# Altium schematic symbol library DAC_MAX542CCSD.Schlib: 1 symbol
Pins are listed as number, name and electrical type; pins without a type are passive.

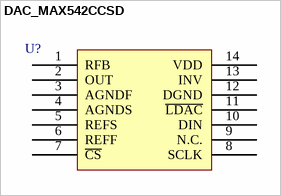
[diagram p0: symbol DAC_MAX542CCSD]

## DAC_MAX542CCSD
designator U?, comment MAX542  (value not drawn)
16-bit DAC
footprint SOIC127P600X175-14N (SOIC, 14-Leads, Body 9.90x3.90mm, Pitch 1.27mm, IPC Medium Density)
pins: 1 RFB, 2 OUT, 3 AGNDF, 4 AGNDS, 5 REFS, 6 REFF, 7 ~{CS}, 8 SCLK, 9 N.C., 10 DIN, 11 ~{LDAC}, 12 DGND, 13 INV, 14 VDD